# EAGLE library part EPG.0B.306.HLNS (library lplemo)
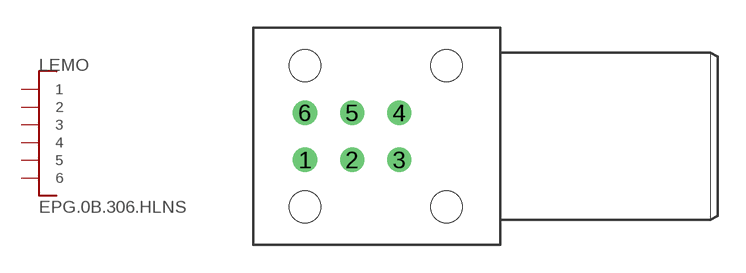
[diagram p20: symbol with the pads of P19-EPG-EXG-0B.306S; footprint P19-EPG-EXG-0B.306S]

Designator prefix LEMO

## EPG.0B.306.HLNS  [P19-EPG-EXG-0B.306S]
1  1
2  2
3  3
4  4
5  5
6  6

## Footprint P19-EPG-EXG-0B.306S (pad centres in mm)
drill 0.8 round: 1 -7.62,-1.27; 2 -5.08,-1.27; 3 -2.54,-1.27; 4 -2.54,1.27; 5 -5.08,1.27; 6 -7.62,1.27
hole 1.7 at -7.62,-3.81
hole 1.7 at 0,-3.81
hole 1.7 at 0,3.81
hole 1.7 at -7.62,3.81